# Altium footprint library Sensor_Power_Supply.PcbLib: 23 footprints (part 2 of 2)
Each footprint in its own frame and in the unit in brackets; x right, y up, seen from the top. Pads: shape width x height; smd on the part's side, far side on the other; paste and mask are expansions set on the pad; w line width, h text height; cw(c..) or ccw(c..) is an arc to the next point about the centre after c.
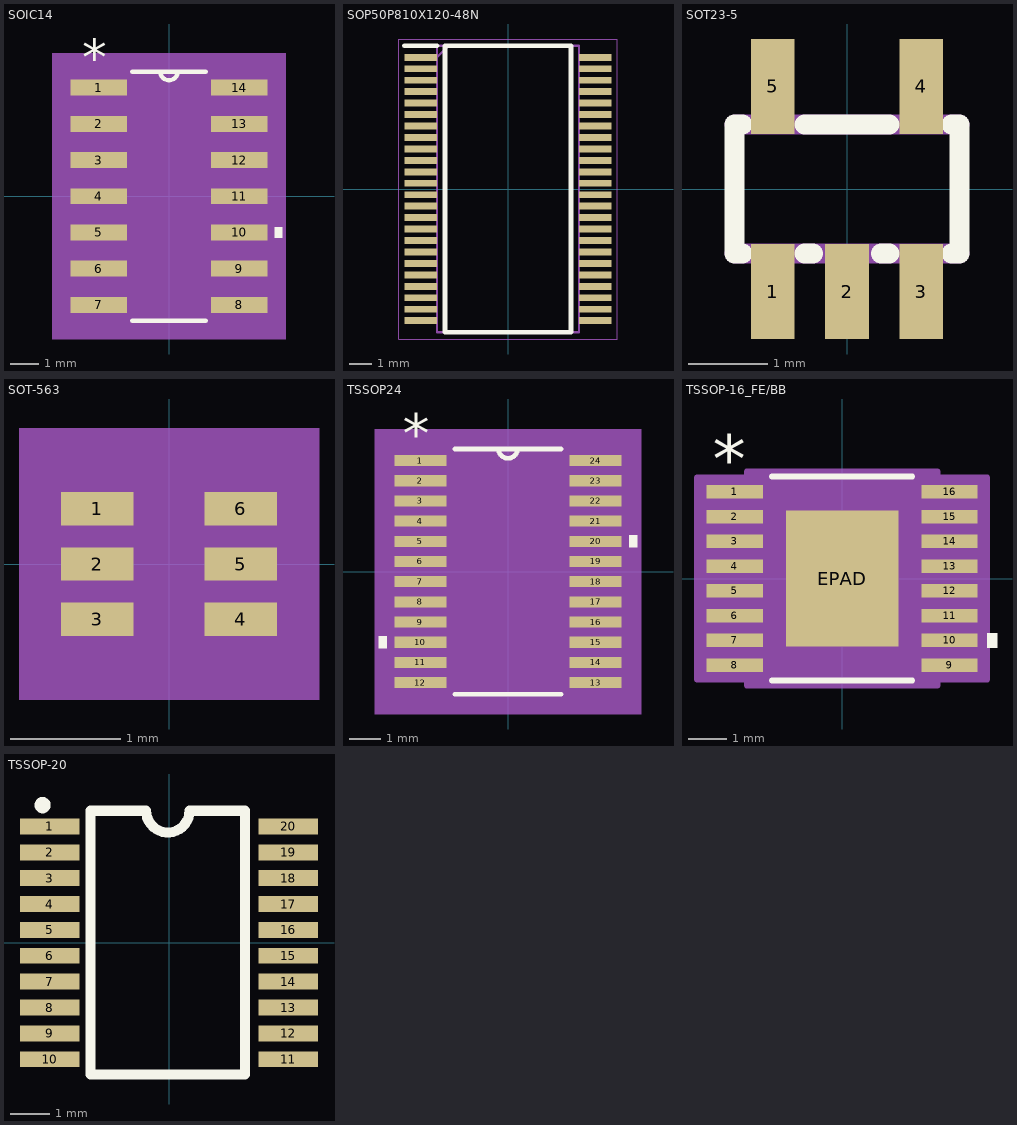
[diagram p1: the footprints below, top view; thin cyan lines are the x and y axes]

## SOIC14 [mil]
pads (14):
  rect 78x22 smd: 1(-97,150) 2(-97,100) 3(-97,50) 4(-97,0) 5(-97,-50) 6(-97,-100) 7(-97,-150) 8(97,-150) 9(97,-100) 10(97,-50) 11(97,0) 12(97,50) 13(97,100) 14(97,150)
Top Overlay:
  region: 146,-42.5 156,-42.5 156,-57.5 146,-57.5
  lines w6: -50.89,-172 50.89,-172 ; -50.89,172 50.89,172 ; -12,172 ccw(c0,172) 12,172
  text "*" at -119.5,167 h50
Mechanical 5:
  region: 161,-197 -161,-197 -161,197 161,197
Mechanical 13:
  lines w0: -12,172 ccw(c0,172) 12,172
  lines w1: -122,-160 -122,-140 -78.5,-140 -78.5,-160 -122,-160 ; -122,-110 -122,-90 -78.5,-90 -78.5,-110 -122,-110 ; -122,-60 -122,-40 -78.5,-40 -78.5,-60 -122,-60 ; -122,-10 -122,10 -78.5,10 -78.5,-10 -122,-10 ; -122,40 -122,60 -78.5,60 -78.5,40 -122,40 ; -122,90 -122,110 -78.5,110 -78.5,90 -122,90 ; -122,140 -122,160 -78.5,160 -78.5,140 -122,140 ; -78.5,-172 78.5,-172 78.5,172 -78.5,172 -78.5,-172 ; 78.5,-160 78.5,-140 122,-140 122,-160 78.5,-160 ; 78.5,-110 78.5,-90 122,-90 122,-110 78.5,-110 ; 78.5,-60 78.5,-40 122,-40 122,-60 78.5,-60 ; 78.5,-10 78.5,10 122,10 122,-10 78.5,-10 ; 78.5,40 78.5,60 122,60 122,40 78.5,40 ; 78.5,90 78.5,110 122,110 122,90 78.5,90 ; 78.5,140 78.5,160 122,160 122,140 78.5,140
  text "*" at -119.5,167 h50
Mechanical 15:
  region: 146,-182 -146,-182 -146,182 146,182
  lines w6: -146,-182 -146,182 146,182 146,-182 -146,-182
3D body "SOIC14.SLDPRT": height 66.93, standoff 0, extent -118.1,-173.22 118.12,173.24
3D body: height 10, standoff 0, extent 0,0 10,10

## SOP50P810X120-48N [mm]
pads (48):
  rect 1.425x0.3 smd: 1(-3.812,5.75) 2(-3.812,5.25) 3(-3.812,4.75) 4(-3.812,4.25) 5(-3.812,3.75) 6(-3.812,3.25) 7(-3.812,2.75) 8(-3.812,2.25) 9(-3.812,1.75) 10(-3.812,1.25) 11(-3.812,0.75) 12(-3.812,0.25) 13(-3.812,-0.25) 14(-3.812,-0.75) 15(-3.812,-1.25) 16(-3.812,-1.75) 17(-3.812,-2.25) 18(-3.812,-2.75) 19(-3.812,-3.25) 20(-3.812,-3.75) 21(-3.812,-4.25) 22(-3.812,-4.75) 23(-3.812,-5.25) 24(-3.812,-5.75) 25(3.812,-5.75) 26(3.812,-5.25) 27(3.812,-4.75) 28(3.812,-4.25) 29(3.812,-3.75) 30(3.812,-3.25) 31(3.812,-2.75) 32(3.812,-2.25) 33(3.812,-1.75) 34(3.812,-1.25) 35(3.812,-0.75) 36(3.812,-0.25) 37(3.812,0.25) 38(3.812,0.75) 39(3.812,1.25) 40(3.812,1.75) 41(3.812,2.25) 42(3.812,2.75) 43(3.812,3.25) 44(3.812,3.75) 45(3.812,4.25) 46(3.812,4.75) 47(3.812,5.25) 48(3.812,5.75)
Top Overlay:
  lines w0.2: -4.525,6.25 -3.1,6.25 ; -2.75,-6.25 2.75,-6.25 2.75,6.25 -2.75,6.25 -2.75,-6.25
Mechanical 13:
  lines w0.1: -3.1,5.75 -2.6,6.25 ; -3.1,-6.25 3.1,-6.25 3.1,6.25 -3.1,6.25 -3.1,-6.25
Mechanical 15:
  lines w0.05: -4.775,-6.55 4.775,-6.55 4.775,6.55 -4.775,6.55 -4.775,-6.55
3D body "74ALVC164245DGG,11.stp": height 1.2, standoff 0, extent -4.05,-6.25 4.05,6.25

## SOT23-5 [mil]
pads (5):
  rect 21.7x47.2 smd: 1(-37,-51) 2(0,-51) 3(37,-51) 4(37,51) 5(-37,51)
Top Overlay:
  lines w10: -52,-32 -56,-32 -56,32 -52,32 ; -21,-32 -17,-32 ; -21,32 21,32 ; 17,-32 21,-32 ; 52,-32 56,-32 56,32 52,32
Mechanical 15:
  lines w10: -56,-32 56,-32 ; -56,32 56,32
3D body "SOT23-5.SLDPRT": height 46.46, standoff 0.2, extent -58.81,-56 58.81,54.23

## SOT-563 [mm]
pads (6):
  rect 0.654x0.301 smd: 1(-0.65,0.5) 2(-0.65,0) 3(-0.65,-0.5) 4(0.65,-0.5) 5(0.65,0) 6(0.65,0.5)
Mechanical 5:
  region: 1.358,-1.231 -1.358,-1.231 -1.358,1.231 1.358,1.231
Mechanical 13:
  lines w0.025: -0.65,-0.85 0.65,-0.85 0.65,0.85 -0.65,0.85 -0.65,-0.85
Mechanical 15:
  region: 1.231,-1.104 -1.231,-1.104 -1.231,1.104 1.231,1.104
  lines w0.152: -1.231,-1.104 -1.231,1.104 1.231,1.104 1.231,-1.104 -1.231,-1.104
3D body "SOT-563.SLDPRT": height 0.58, standoff 0, extent -0.813,-0.8 0.813,0.8

## TSSOP24 [mil]
pads (24):
  rect 66x14 smd: 1(-111,140.75) 2(-111,115.16) 3(-111,89.57) 4(-111,63.98) 5(-111,38.39) 6(-111,12.8) 7(-111,-12.8) 8(-111,-38.39) 9(-111,-63.98) 10(-111,-89.57) 11(-111,-115.16) 12(-111,-140.75) 13(111,-140.75) 14(111,-115.16) 15(111,-89.57) 16(111,-63.98) 17(111,-38.39) 18(111,-12.8) 19(111,12.8) 20(111,38.39) 21(111,63.98) 22(111,89.57) 23(111,115.16) 24(111,140.75)
Top Overlay:
  region: 154,45.89 164,45.89 164,30.89 154,30.89
  region: -154,-82.07 -164,-82.07 -164,-97.07 -154,-97.07
  lines w6: -67.44,-155.5 67.44,-155.5 ; -67.44,155.5 67.44,155.5 ; -12,155.5 ccw(c0,155.5) 12,155.5
  text "*" at -133.5,149.75 h50
Mechanical 5:
  region: 169,-180.5 -169,-180.5 -169,180.5 169,180.5
Mechanical 13:
  lines w0: -12,155.5 ccw(c0,155.5) 12,155.5
  lines w1: -130,-146.75 -88.5,-146.75 -88.5,-134.75 -130,-134.75 -130,-146.75 ; -130,-121.16 -88.5,-121.16 -88.5,-109.16 -130,-109.16 -130,-121.16 ; -130,-95.57 -88.5,-95.57 -88.5,-83.57 -130,-83.57 -130,-95.57 ; -130,-69.98 -88.5,-69.98 -88.5,-57.98 -130,-57.98 -130,-69.98 ; -130,-44.39 -88.5,-44.39 -88.5,-32.39 -130,-32.39 -130,-44.39 ; -130,-18.8 -88.5,-18.8 -88.5,-6.8 -130,-6.8 -130,-18.8 ; -130,6.8 -88.5,6.8 -88.5,18.8 -130,18.8 -130,6.8 ; -130,32.39 -88.5,32.39 -88.5,44.39 -130,44.39 -130,32.39 ; -130,57.98 -88.5,57.98 -88.5,69.98 -130,69.98 -130,57.98 ; -130,83.57 -88.5,83.57 -88.5,95.57 -130,95.57 -130,83.57 ; -130,109.16 -88.5,109.16 -88.5,121.16 -130,121.16 -130,109.16 ; -130,134.75 -88.5,134.75 -88.5,146.75 -130,146.75 -130,134.75 ; -88.5,-155.5 -88.5,155.5 88.5,155.5 88.5,-155.5 -88.5,-155.5 ; 88.5,-146.75 130,-146.75 130,-134.75 88.5,-134.75 88.5,-146.75 ; 88.5,-121.16 130,-121.16 130,-109.16 88.5,-109.16 88.5,-121.16 ; 88.5,-95.57 130,-95.57 130,-83.57 88.5,-83.57 88.5,-95.57 ; 88.5,-69.98 130,-69.98 130,-57.98 88.5,-57.98 88.5,-69.98 ; 88.5,-44.39 130,-44.39 130,-32.39 88.5,-32.39 88.5,-44.39 ; 88.5,-18.8 130,-18.8 130,-6.8 88.5,-6.8 88.5,-18.8 ; 88.5,6.8 130,6.8 130,18.8 88.5,18.8 88.5,6.8 ; 88.5,32.39 130,32.39 130,44.39 88.5,44.39 88.5,32.39 ; 88.5,57.98 130,57.98 130,69.98 88.5,69.98 88.5,57.98 ; 88.5,83.57 130,83.57 130,95.57 88.5,95.57 88.5,83.57 ; 88.5,109.16 130,109.16 130,121.16 88.5,121.16 88.5,109.16 ; 88.5,134.75 130,134.75 130,146.75 88.5,146.75 88.5,134.75
  text "*" at -133.5,149.75 h50
Mechanical 15:
  region: 154,-165.5 -154,-165.5 -154,165.5 154,165.5
  lines w6: -154,-165.5 154,-165.5 154,165.5 -154,165.5 -154,-165.5
3D body "TSSOP24.SLDPRT": height 47.24, standoff 0, extent -129.05,-155.5 129.05,155.52
3D body: height 10, standoff 0, extent 0,0 10,10

## TSSOP-16_FE/BB [mil]
pads (17):
  rect 58x14 smd: 1(-111,89.6) 2(-111,64) 3(-111,38.4) 4(-111,12.8) 5(-111,-12.8) 6(-111,-38.4) 7(-111,-64) 8(-111,-89.6) 9(111,-89.6) 10(111,-64) 11(111,-38.4) 12(111,-12.8) 13(111,12.8) 14(111,38.4) 15(111,64) 16(111,89.6)
  rect 116x141 smd paste-70: EPAD(0,0)
Top Overlay:
  region: 150,-56.5 160,-56.5 160,-71.5 150,-71.5
  lines w6: -72.39,-105.5 72.39,-105.5 ; -72.39,105.5 72.39,105.5
  text "*" at -133.5,98.6 h50
Top Paste:
  region: -3.94,66.56 -54.06,66.56 -54.06,3.94 -3.94,3.94
  region: -3.94,-3.94 -54.06,-3.94 -54.06,-66.56 -3.94,-66.56
  region: 54.06,66.56 3.94,66.56 3.94,3.94 54.06,3.94
  region: 54.06,-3.94 3.94,-3.94 3.94,-66.56 54.06,-66.56
Mechanical 13:
  lines w0: -12,100.5 ccw(c0,100.5) 12,100.5
  lines w1: -126,-95.6 -126,-83.6 -88.5,-83.6 -88.5,-95.6 -126,-95.6 ; -126,-70 -126,-58 -88.5,-58 -88.5,-70 -126,-70 ; -126,-44.4 -126,-32.4 -88.5,-32.4 -88.5,-44.4 -126,-44.4 ; -126,-18.8 -126,-6.8 -88.5,-6.8 -88.5,-18.8 -126,-18.8 ; -126,6.8 -126,18.8 -88.5,18.8 -88.5,6.8 -126,6.8 ; -126,32.4 -126,44.4 -88.5,44.4 -88.5,32.4 -126,32.4 ; -126,58 -126,70 -88.5,70 -88.5,58 -126,58 ; -126,83.6 -126,95.6 -88.5,95.6 -88.5,83.6 -126,83.6 ; -88.5,-100.5 88.5,-100.5 88.5,100.5 -88.5,100.5 -88.5,-100.5 ; 88.5,-95.6 88.5,-83.6 126,-83.6 126,-95.6 88.5,-95.6 ; 88.5,-70 88.5,-58 126,-58 126,-70 88.5,-70 ; 88.5,-44.4 88.5,-32.4 126,-32.4 126,-44.4 88.5,-44.4 ; 88.5,-18.8 88.5,-6.8 126,-6.8 126,-18.8 88.5,-18.8 ; 88.5,6.8 88.5,18.8 126,18.8 126,6.8 88.5,6.8 ; 88.5,32.4 88.5,44.4 126,44.4 126,32.4 88.5,32.4 ; 88.5,58 88.5,70 126,70 126,58 88.5,58 ; 88.5,83.6 88.5,95.6 126,95.6 126,83.6 88.5,83.6
  text "*" at -86,47.5 h50
Mechanical 15:
  region: -98.5,-104.4 -150,-104.4 -150,104.4 -98.5,104.4 -98.5,110.5 98.5,110.5 98.5,104.4 150,104.4 150,-104.4 98.5,-104.4 98.5,-110.5 -98.5,-110.5
  lines w6: -150,-104.4 -150,104.4 -98.5,104.4 -98.5,110.5 98.5,110.5 98.5,104.4 150,104.4 150,-104.4 98.5,-104.4 98.5,-110.5 -98.5,-110.5 -98.5,-104.4 -150,-104.4
3D body "TSSOP-16.SLDPRT": height 43.31, standoff 0, extent -130.98,-98.42 120.99,98.44

## TSSOP-20 [mm]
pads (20):
  rect 1.494x0.4 smd: 1(-3.001,2.925) 2(-3.001,2.275) 3(-3.001,1.625) 4(-3.001,0.975) 5(-3.001,0.325) 6(-3.001,-0.324) 7(-3.001,-0.975) 8(-3.001,-1.625) 9(-3.001,-2.275) 10(-3.001,-2.925) 11(3.001,-2.925) 12(3.001,-2.275) 13(3.001,-1.625) 14(3.001,-0.975) 15(3.001,-0.325) 16(3.001,0.325) 17(3.001,0.975) 18(2.996,1.625) 19(2.996,2.275) 20(3.001,2.925)
Top Overlay:
  circle w0.254: c-3.176,3.458 r0.076
  lines w0.254: -1.972,3.291 -1.972,-3.311 1.914,-3.311 1.914,3.319 0.517,3.319 cw(c-0.029,3.319) -0.575,3.319 ; -1.972,3.319 -0.601,3.319
3D body "TSSOP20.SLDPRT": height 1.09, standoff 0, extent -3.14,-3.325 3.14,3.175